# EAGLE library part MP1584EN (library DECADE-libraries20151104)
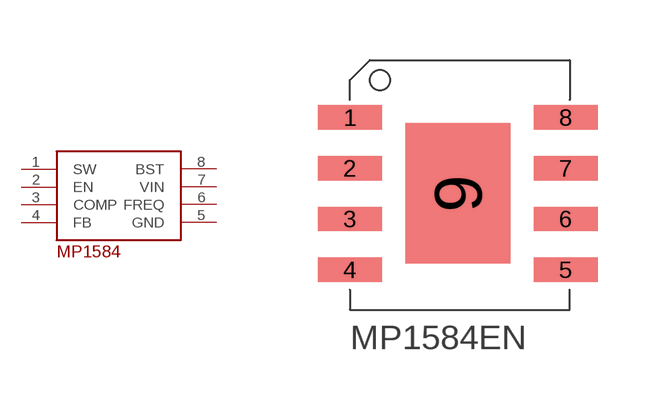
[diagram p127: symbol with the pads of SOP-8; footprint SOP-8]

Designator prefix -

## MP1584EN  [SOP-8]
1  SW
2  EN
3  COMP
4  FB
5  GND
6  FREQ
7  VIN
8  BST

## Footprint SOP-8 (pad centres in mm)
smd 1.61 x 0.61: 1 0,3.81; 2 0,2.54; 3 0,1.27; 4 0,0; 5 5.4,0; 6 5.4,1.27; 7 5.4,2.54; 8 5.4,3.81
smd 2.62 x 3.51: 9 2.7,1.91